# Altium schematic symbol library Components - 08.08.24 - 17.SchLib: 1 symbol
Pins are listed as number, name and electrical type; pins without a type are passive.

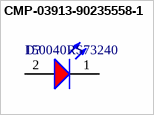
[diagram p0: symbol CMP-03913-90235558-1]

## CMP-03913-90235558-1
designator D?, comment 150040RS73240
150040RS73240 WL-SMCC SMT Mono-Color Chip LED Compact; NexarPartId: 90235558; Forward Voltage: 2V; Forward Current: 60mA; Dominant Wavelength: 625nm; Power Dissipation: 72mW; Viewing Angle: 120°; Max Junction Temperature (Tj): 95°C; Max Reverse Voltage (DC): 5V; Peak Wavelength: 630nm; Luminous Intensity: 100mcd; Color: Red; Length: 1mm; Max Operating Temperature: 85°C; RoHS: Compliant; Height: 400µm; Packaging: Tape and Reel; Width: 500µm; Wavelength: 625nm; Min Operating Temperature: -40°C; Reverse Voltage: 5V; Case/Package: 0402
footprint WL-SMCC_0402_L1W0.5H0.4 (SMD Mono-color Chip LED Compact, body 1x0.5mm)
pins: 1 K, 2 A